# Altium footprint library 7A-18.432MAAJ-T.PcbLib: 1 footprints
Each footprint in its own frame and in the unit in brackets; x right, y up, seen from the top. Pads: shape width x height; smd on the part's side, far side on the other; paste and mask are expansions set on the pad; w line width, h text height; cw(c..) or ccw(c..) is an arc to the next point about the centre after c.
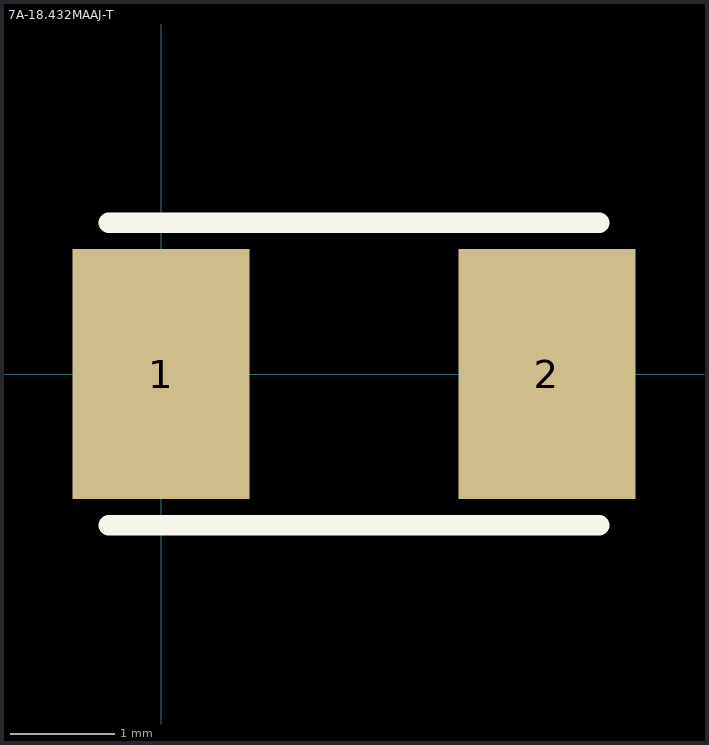
[diagram p0: the footprint, top view; thin cyan lines are the x and y axes]

## 7A-18.432MAAJ-T [mm] "TXC - 7A-18.432MAAJ-T - XTAL, 18.432MHZ, 18PF, SMD, 5.0X3.2"
height 1.2
pads (2):
  rect 1.7x2.4 smd: 1(0,0) 2(3.7,0)
Top Overlay:
  lines w0.2: -0.5,-1.45 4.2,-1.45 ; -0.5,1.45 4.2,1.45
3D body: height 1.2, standoff 0, extent -0.65,-1.6 4.35,1.6